# EAGLE library part DUAL-PORT-USB-REC (library tps2511)
Dual USB Receptacle, Horizontal.
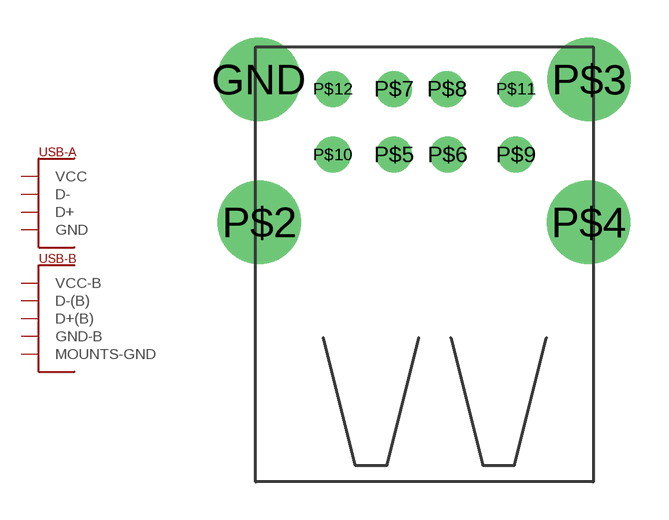
[diagram p0: symbol with the pads of DUAL-PORT-USB; footprint DUAL-PORT-USB]

Designator prefix -

## DUAL-PORT-USB-REC  [DUAL-PORT-USB]
GND  MOUNTS-GND  pwr
P$2  MOUNTS-GND  pwr
P$3  MOUNTS-GND  pwr
P$4  MOUNTS-GND  pwr
P$5  D-(B)
P$6  D+(B)
P$7  D-
P$8  D+
P$9  GND-B  pwr
P$10  VCC-B  pwr
P$11  GND  pwr
P$12  VCC  pwr

## Footprint DUAL-PORT-USB (pad centres in mm)
drill 2.311: GND -7.645,0.127; P$2 -7.62,-5.563; P$3 5.512,0.127; P$4 5.486,-5.563
drill 0.92: P$5 -2.261,-2.87; P$6 -0.127,-2.87; P$7 -2.261,-0.254; P$8 -0.152,-0.254; P$9 2.591,-2.87; P$10 -4.699,-2.87; P$11 2.591,-0.254; P$12 -4.699,-0.254